# EAGLE library part ADAFRUIT757 (library general_lib)
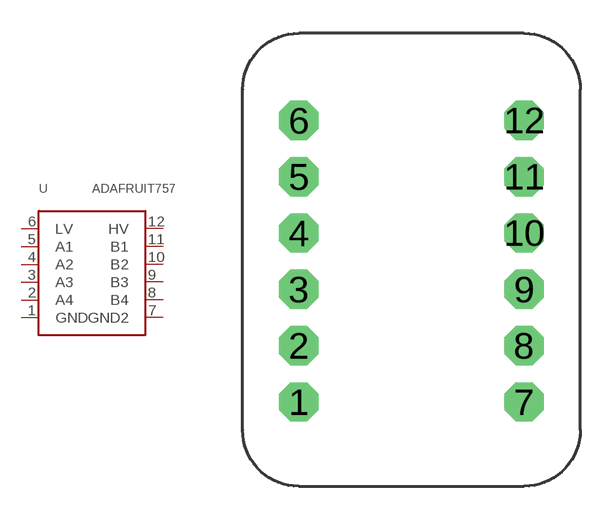
[diagram p4: symbol with the pads of ADAFRUIT757; footprint ADAFRUIT757]

Designator prefix -

## ADAFRUIT757  [ADAFRUIT757]
1  GND
2  A4
3  A3
4  A2
5  A1
6  LV
7  GND2
8  B4
9  B3
10  B2
11  B1
12  HV

## Footprint ADAFRUIT757 (pad centres in mm)
drill 1.016 pad 1.778 octagon: 1 2.54,3.81; 2 2.54,6.35; 3 2.54,8.89; 4 2.54,11.43; 5 2.54,13.97; 6 2.54,16.51; 7 12.7,3.81; 8 12.7,6.35; 9 12.7,8.89; 10 12.7,11.43; 11 12.7,13.97; 12 12.7,16.51